# EAGLE library part DOORACCESSFRONTPANEL (library hsg-door)
Connector to the Front Panel of the Door Access System
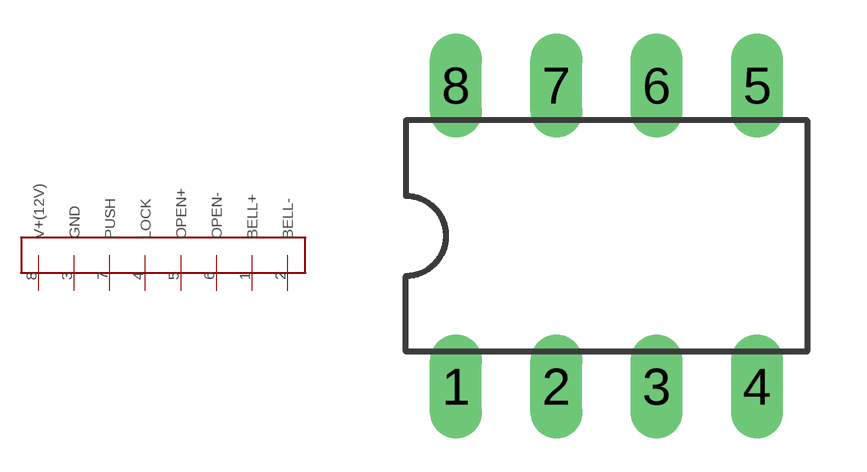
[diagram p0: symbol with the pads of DIL08; footprint DIL08]

Designator prefix -

## DOORACCESSFRONTPANEL  [DIL08]
1  BELL+  out
2  BELL-  out
3  GND  pwr
4  LOCK  out
5  OPEN+  in
6  OPEN-  in
7  PUSH  out
8  V+(12V)  pwr

## Footprint DIL08 (pad centres in mm)
Dual In Line Package
drill 0.813 long: 1 -3.81,-3.81; 2 -1.27,-3.81; 3 1.27,-3.81; 4 3.81,-3.81; 5 3.81,3.81; 6 1.27,3.81; 7 -1.27,3.81; 8 -3.81,3.81